# Altium footprint library DRC_TI.PcbLib: 1 footprints
Each footprint in its own frame and in the unit in brackets; x right, y up, seen from the top. Pads: shape width x height; smd on the part's side, far side on the other; paste and mask are expansions set on the pad; w line width, h text height; cw(c..) or ccw(c..) is an arc to the next point about the centre after c.
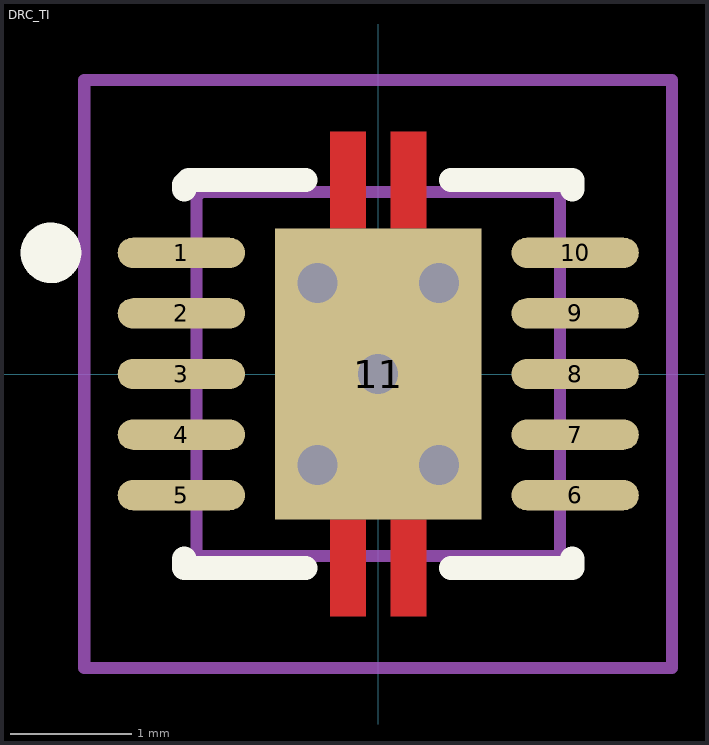
[diagram p0: the footprint, top view; thin cyan lines are the x and y axes]

## DRC_TI [mm] "LCC, 10-Pins, Body 3.2x3.2mm (max), Pitch 0.50mm, IPC Medium Density"
height 1
pads (11):
  oval 1.05x0.25 smd: 1(-1.625,1) 2(-1.625,0.5) 3(-1.625,0) 4(-1.625,-0.5) 5(-1.625,-1) 6(1.625,-1) 7(1.625,-0.5) 8(1.625,0) 9(1.625,0.5) 10(1.625,1)
  rect 1.7x2.4 smd paste-1.2 mask+0.05: 11(0,0)
via -0.5,0.75 diameter 0.5 hole 0.33
via 0.5,0.75 diameter 0.5 hole 0.33
via 0.5,-0.75 diameter 0.5 hole 0.33
via -0.5,-0.75 diameter 0.5 hole 0.33
via 0,0 diameter 0.5 hole 0.33
Top Layer:
  rectangle: -0.4,1.2 -0.1,2
  rectangle: 0.1,1.2 0.4,2
  rectangle: 0.1,-2 0.4,-1.2
  rectangle: -0.4,-2 -0.1,-1.2
Top Overlay:
  circle w0.25: c-2.7,1 r0.125
  lines w0.2: -1.6,-1.525 -1.6,-1.6 -0.6,-1.6 ; -1.6,1.525 -1.6,1.563 -1.563,1.6 -0.6,1.6 ; 0.6,-1.6 1.6,-1.6 1.6,-1.525 ; 0.6,1.6 1.6,1.6 1.6,1.525
Top Paste:
  region: -0.85,-0.2 -0.15,-0.2 -0.15,-1.2 -0.85,-1.2
  region: 0.15,-0.2 0.85,-0.2 0.85,-1.2 0.15,-1.2
  region: 0.15,1.2 0.85,1.2 0.85,0.2 0.15,0.2
  region: -0.85,1.2 -0.15,1.2 -0.15,0.2 -0.85,0.2
  region: -0.375,1.875 -0.125,1.875 -0.125,1.375 -0.375,1.375
  region: 0.125,1.875 0.375,1.875 0.375,1.375 0.125,1.375
  region: -0.375,-1.375 -0.125,-1.375 -0.125,-1.875 -0.375,-1.875
  region: 0.125,-1.375 0.375,-1.375 0.375,-1.875 0.125,-1.875
Top Solder:
  region: 0.05,-1.2 0.45,-1.2 0.45,-2.05 0.05,-2.05
  region: -0.45,-1.2 -0.05,-1.2 -0.05,-2.05 -0.45,-2.05
  region: 0.05,2.075 0.45,2.075 0.45,1.225 0.05,1.225
  region: -0.45,2.075 -0.05,2.075 -0.05,1.225 -0.25,1.225 -0.45,1.225
Mechanical 13:
  lines w0.1: -1.5,-1.5 1.5,-1.5 1.5,1.5 -1.463,1.5 -1.5,1.463 -1.5,-1.5
Mechanical 15:
  lines w0.1: -0.5,0 0.5,0 ; 0,-0.5 0,0.5 ; -2.425,-2.425 2.425,-2.425 2.425,2.425 -2.425,2.425 -2.425,-2.425
3D body: height 0.9, standoff 0.01, extent -1.5,-1.5 1.5,1.5